# Altium footprint library 32K10K400L5_EXT.PcbLib: 1 footprints
Each footprint in its own frame and in the unit in brackets; x right, y up, seen from the top. Pads: shape width x height; smd on the part's side, far side on the other; paste and mask are expansions set on the pad; w line width, h text height; cw(c..) or ccw(c..) is an arc to the next point about the centre after c.
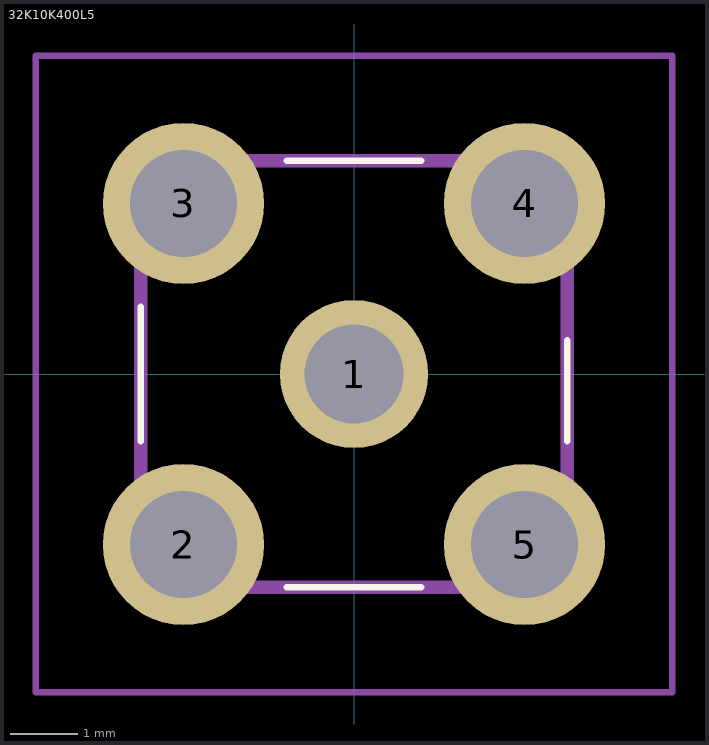
[diagram p0: the footprint, top view; thin cyan lines are the x and y axes]

## 32K10K400L5 [mm]
pads (5):
  round 2.205 hole 1.47: 1(0,0)
  round 2.4 hole 1.6: 2(-2.54,-2.54) 3(-2.54,2.54) 4(2.54,2.54) 5(2.54,-2.54)
Top Overlay:
  lines w0.1: -3.175,-1 -3.175,1 ; -1,-3.175 1,-3.175 ; -1,3.175 1,3.175 ; 3.175,-1 3.175,0.5
Mechanical 15:
  lines w0.2: -3.175,-3.175 3.175,-3.175 3.175,3.175 -3.175,3.175 -3.175,-3.175
Mechanical 20:
  lines w0.1: -4.74,-4.74 4.74,-4.74 4.74,4.74 -4.74,4.74 -4.74,-4.74